# Altium schematic symbol library B82464G4333M.SCHLIB: 1 symbol
Pins are listed as number, name and electrical type; pins without a type are passive.

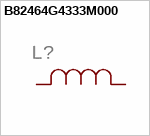
[diagram p0: symbol B82464G4333M000]

## B82464G4333M000
designator L?
GateName_1: A; SymbolName_1: IND; DeviceSetName: B82464G4333M000; BUILT_BY: EMA_UL_Team; SOURCELIBRARY: Epcos_2010-01-01_IND_B82464G4; VENDOR: Epcos; LibraryName: B82464G4333M; Package: IND_B82464G4_EPC; MANUFACTURER_PART_NUMBER: B82464G4333M000
footprint IND_B82464G4_EPC
pins: 1, 2